# Altium schematic symbol library ICs.SchLib: 247 symbols (part 1 of 4)
Pins are listed as number, name and electrical type; pins without a type are passive.

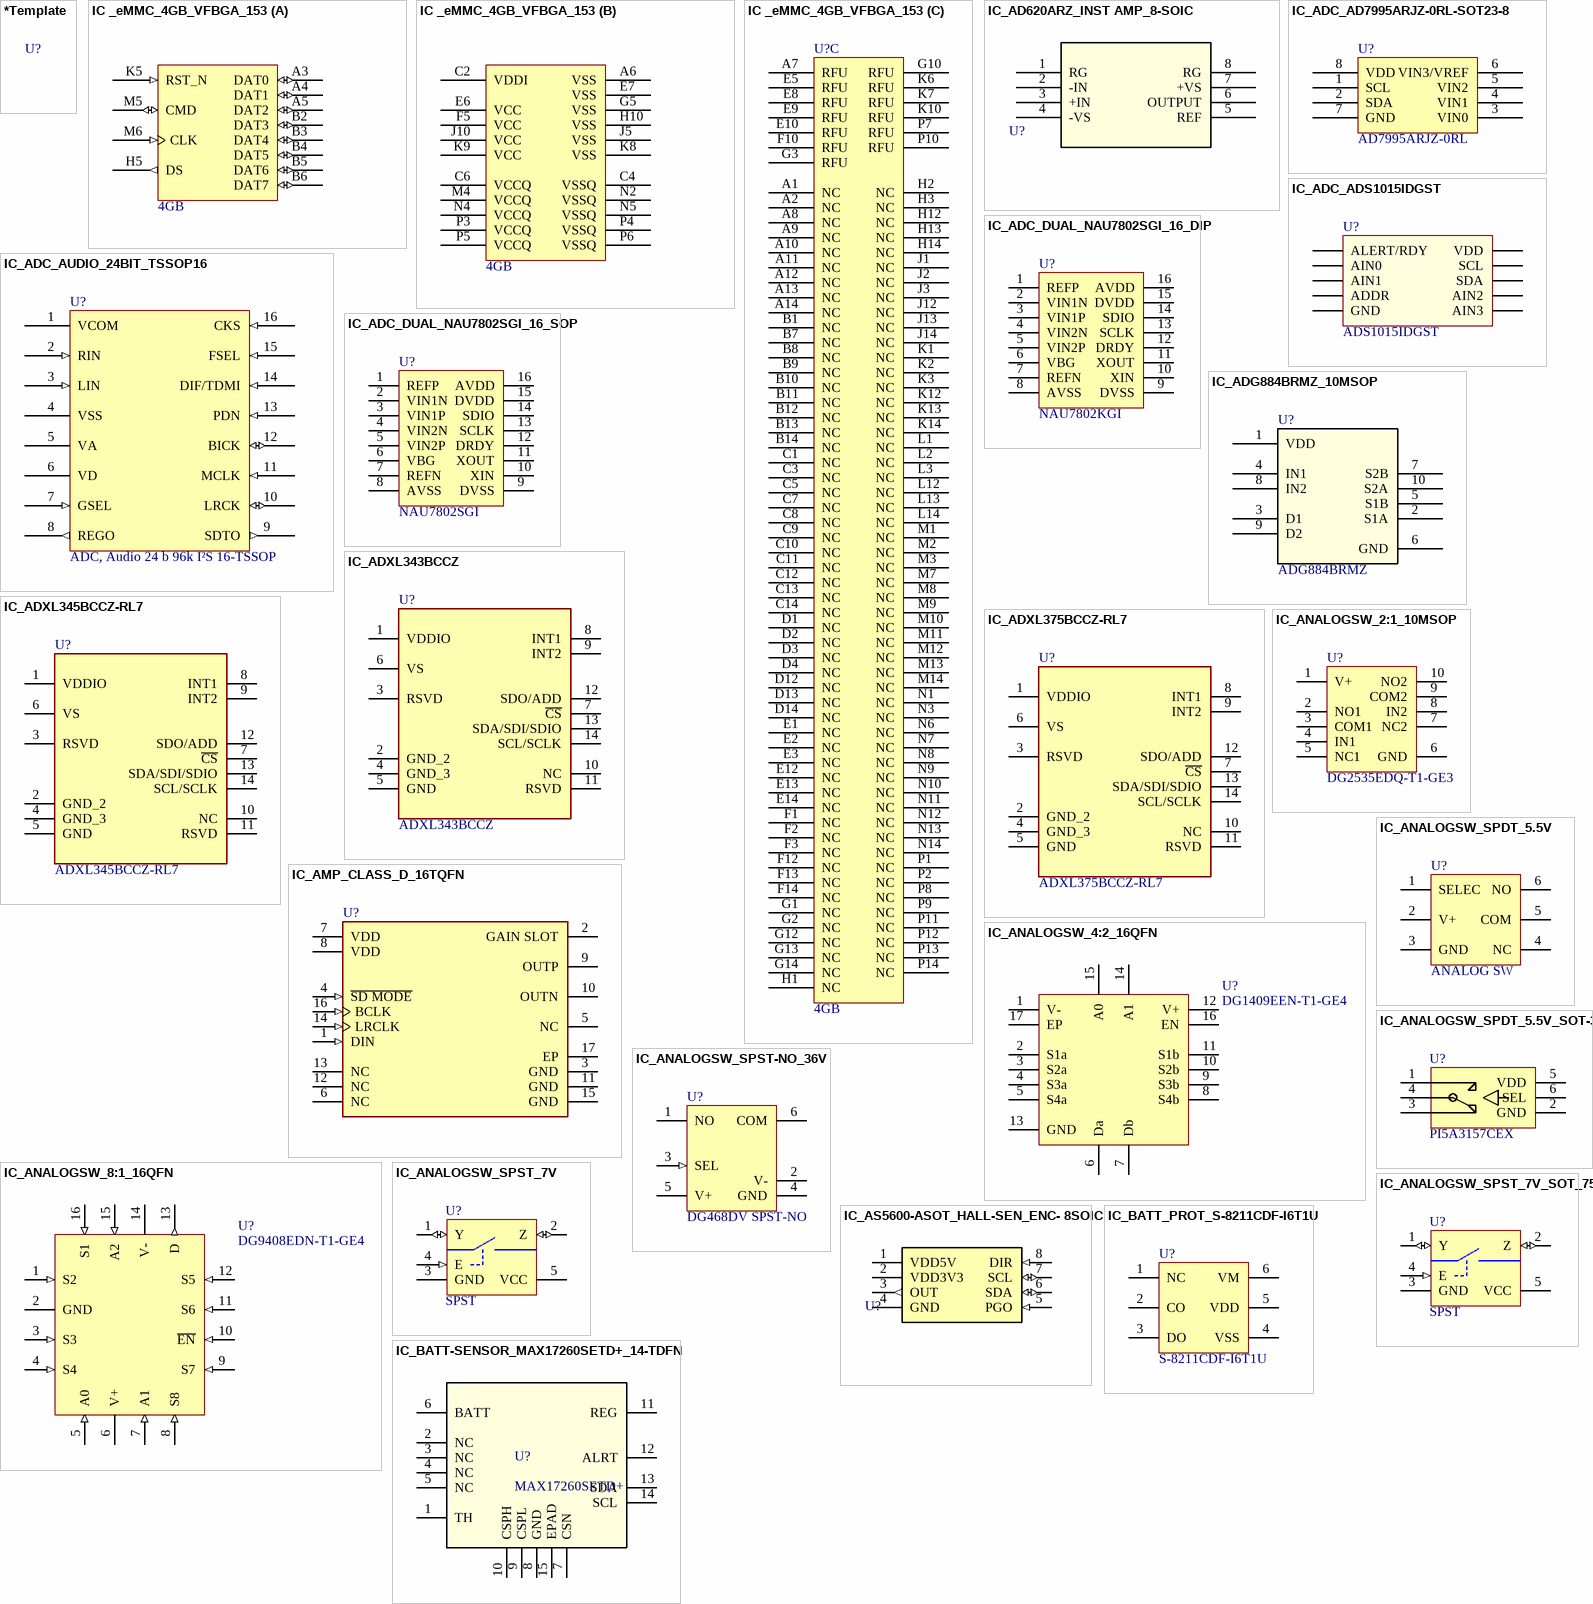
[diagram p0: symbols *Template to IC_BATT_PROT_S-8211CDF-I6T1U]

## *Template
designator U?
Reel Stock: N/A; Last modified by: J.Jaramillo

## IC _eMMC_4GB_VFBGA_153
designator U?, comment 4GB
eMMC 4GB e.MMC5.1 BGA 9.0 x 7.5 x 0.8 mm; Manufacturer: SkyHigh Memory; Manufacturer Part Number: S40FC004C1B2I00000; Supplier 1: Mouser; Supplier Part Number 1: 727-S40FC004C1B2I000; Reel Stock: N/A; Last modified by: J.Jaramillo; Last modified date: 20240310; ComponentLink1Description: Mouser; ComponentLink1URL: https://co.mouser.com/ProductDetail/SkyHigh-Memory/S40FC004C1B2I00000?qs=OlC7AqGiEDmWmI7w2huuXw%3D%3D
footprint VFBGA-153_9x7.5mm (/20220418/V-A.Patino)
part A pins: A3 DAT0 (io) "Data I/O: These are bidirectional data signals. The DAT signals operate in push-pull mode. By default, after power-on or assertion of the RST_n signal, only DAT0 is used for data transfer. The MMC controller can configure a (See Datasheet)", A4 DAT1 (io) "Data I/O: These are bidirectional data signals. The DAT signals operate in push-pull mode. By default, after power-on or assertion of the RST_n signal, only DAT0 is used for data transfer. The MMC controller can configure a (See Datasheet)", A5 DAT2 (io) "Data I/O: These are bidirectional data signals. The DAT signals operate in push-pull mode. By default, after power-on or assertion of the RST_n signal, only DAT0 is used for data transfer. The MMC controller can configure a (See Datasheet)", B2 DAT3 (io) "Data I/O: These are bidirectional data signals. The DAT signals operate in push-pull mode. By default, after power-on or assertion of the RST_n signal, only DAT0 is used for data transfer. The MMC controller can configure a (See Datasheet)", B3 DAT4 (io) "Data I/O: These are bidirectional data signals. The DAT signals operate in push-pull mode. By default, after power-on or assertion of the RST_n signal, only DAT0 is used for data transfer. The MMC controller can configure a (See Datasheet)", B4 DAT5 (io) "Data I/O: These are bidirectional data signals. The DAT signals operate in push-pull mode. By default, after power-on or assertion of the RST_n signal, only DAT0 is used for data transfer. The MMC controller can configure a (See Datasheet)", B5 DAT6 (io) "Data I/O: These are bidirectional data signals. The DAT signals operate in push-pull mode. By default, after power-on or assertion of the RST_n signal, only DAT0 is used for data transfer. The MMC controller can configure a (See Datasheet)", B6 DAT7 (io) "Data I/O: These are bidirectional data signals. The DAT signals operate in push-pull mode. By default, after power-on or assertion of the RST_n signal, only DAT0 is used for data transfer. The MMC controller can configure a (See Datasheet)", H5 DS (out) "Reserved for future use: No internal connection is present. Leave it floating externally.", K5 RST_N (in) "Reset: The RST_n signal is used by the host for resetting the device, moving the device to the preidle state. By default, the RST_n signal is temporarily disabled in the device. The host must set ECSD register byte 162, (See Datasheet)", M5 CMD (io) "Command: This signal is a bidirectional command channel used for command and response transfers. The CMD signal has two bus modes: open-drain mode and push-pull mode (see Operating Modes). Commands are sent from the MMC host (See Datasheet)", M6 CLK (in) "Clock: Each cycle of the clock directs a transfer on the command line and on the data line(s). The frequency can vary between the minimum and the maximum clock frequency."
part B pins: A6 VSS "Reserved for future use: No internal connection is present. Leave it floating externally.", C2 VDDI (power) "Internal voltage node: At least a 0.1uF capacitor is required to connect VDDIM to ground. A 1uF capacitor is recommended. Do not tie to supply voltage or ground.", C4 VSSQ (power) "VSSQ: e·MMC controller core and e·MMC I/F ground connection.", C6 VCCQ (power) "VCCQ: e·MMC controller core and e·MMC I/F I/O power supply.", E6 VCC (power) "VCC: NAND interface (I/F) I/O and NAND Flash power supply.", E7 VSS (power) "VSS: NAND I/F I/O and NAND Flash ground connection.", F5 VCC (power) "VCC: NAND interface (I/F) I/O and NAND Flash power supply.", G5 VSS (power) "VSS: NAND I/F I/O and NAND Flash ground connection.", H10 VSS (power) "VSS: NAND I/F I/O and NAND Flash ground connection.", J5 VSS "Reserved for future use: No internal connection is present. Leave it floating externally.", J10 VCC (power) "VCC: NAND interface (I/F) I/O and NAND Flash power supply.", K8 VSS (power) "VSS: NAND I/F I/O and NAND Flash ground connection.", K9 VCC (power) "VCC: NAND interface (I/F) I/O and NAND Flash power supply.", M4 VCCQ (power) "VCCQ: e·MMC controller core and e·MMC I/F I/O power supply.", N2 VSSQ (power) "VSSQ: e·MMC controller core and e·MMC I/F ground connection.", N4 VCCQ (power) "VCCQ: e·MMC controller core and e·MMC I/F I/O power supply.", N5 VSSQ (power) "VSSQ: e·MMC controller core and e·MMC I/F ground connection.", P3 VCCQ (power) "VCCQ: e·MMC controller core and e·MMC I/F I/O power supply.", P4 VSSQ (power) "VSSQ: e·MMC controller core and e·MMC I/F ground connection.", P5 VCCQ (power) "VCCQ: e·MMC controller core and e·MMC I/F I/O power supply.", P6 VSSQ (power) "VSSQ: e·MMC controller core and e·MMC I/F ground connection."
part C pins: A1 NC "No connect: No internal connection is present.", A2 NC "No connect: No internal connection is present.", A7 RFU "Reserved for future use: No internal connection is present. Leave it floating externally.", A8 NC "No connect: No internal connection is present.", A9 NC "No connect: No internal connection is present.", A10 NC "No connect: No internal connection is present.", A11 NC "No connect: No internal connection is present.", A12 NC "No connect: No internal connection is present.", A13 NC "No connect: No internal connection is present.", A14 NC "No connect: No internal connection is present.", B1 NC "No connect: No internal connection is present.", B7 NC "No connect: No internal connection is present.", B8 NC "No connect: No internal connection is present.", B9 NC "No connect: No internal connection is present.", B10 NC "No connect: No internal connection is present.", B11 NC "No connect: No internal connection is present.", B12 NC "No connect: No internal connection is present.", B13 NC "No connect: No internal connection is present.", B14 NC "No connect: No internal connection is present.", C1 NC "No connect: No internal connection is present.", C3 NC "No connect: No internal connection is present.", C5 NC "Reserved for future use: No internal connection is present. Leave it floating externally.", C7 NC "No connect: No internal connection is present.", C8 NC "No connect: No internal connection is present.", C9 NC "No connect: No internal connection is present.", C10 NC "No connect: No internal connection is present.", C11 NC "No connect: No internal connection is present.", C12 NC "No connect: No internal connection is present.", C13 NC "No connect: No internal connection is present.", C14 NC "No connect: No internal connection is present.", D1 NC "No connect: No internal connection is present.", D2 NC "No connect: No internal connection is present.", D3 NC "No connect: No internal connection is present.", D4 NC "No connect: No internal connection is present.", D12 NC "No connect: No internal connection is present.", D13 NC "No connect: No internal connection is present.", D14 NC "No connect: No internal connection is present.", E1 NC "No connect: No internal connection is present.", E2 NC "No connect: No internal connection is present.", E3 NC "No connect: No internal connection is present.", E5 RFU "Reserved for future use: No internal connection is present. Leave it floating externally.", E8 RFU "Reserved for future use: No internal connection is present. Leave it floating externally.", E9 RFU "Reserved for future use: No internal connection is present. Leave it floating externally.", E10 RFU "Reserved for future use: No internal connection is present. Leave it floating externally.", E12 NC "No connect: No internal connection is present.", E13 NC "No connect: No internal connection is present.", E14 NC "No connect: No internal connection is present.", F1 NC "No connect: No internal connection is present.", F2 NC "No connect: No internal connection is present.", F3 NC "No connect: No internal connection is present.", F10 RFU "Reserved for future use: No internal connection is present. Leave it floating externally.", F12 NC "No connect: No internal connection is present.", F13 NC "No connect: No internal connection is present.", F14 NC "No connect: No internal connection is present.", G1 NC "No connect: No internal connection is present.", G2 NC "No connect: No internal connection is present.", G3 RFU "Reserved for future use: No internal connection is present. Leave it floating externally.", G10 RFU "Reserved for future use: No internal connection is present. Leave it floating externally.", G12 NC "No connect: No internal connection is present.", G13 NC "No connect: No internal connection is present.", G14 NC "No connect: No internal connection is present.", H1 NC "No connect: No internal connection is present.", H2 NC "No connect: No internal connection is present.", H3 NC "No connect: No internal connection is present.", H12 NC "No connect: No internal connection is present.", H13 NC "No connect: No internal connection is present.", H14 NC "No connect: No internal connection is present.", J1 NC "No connect: No internal connection is present.", J2 NC "No connect: No internal connection is present.", J3 NC "No connect: No internal connection is present.", J12 NC "No connect: No internal connection is present.", J13 NC "No connect: No internal connection is present.", J14 NC "No connect: No internal connection is present.", K1 NC "No connect: No internal connection is present.", K2 NC "No connect: No internal connection is present.", K3 NC "No connect: No internal connection is present.", K6 RFU "Reserved for future use: No internal connection is present. Leave it floating externally.", K7 RFU "Reserved for future use: No internal connection is present. Leave it floating externally.", K10 RFU "Reserved for future use: No internal connection is present. Leave it floating externally.", K12 NC "No connect: No internal connection is present.", K13 NC "No connect: No internal connection is present.", K14 NC "No connect: No internal connection is present.", L1 NC "No connect: No internal connection is present.", L2 NC "No connect: No internal connection is present.", L3 NC "No connect: No internal connection is present.", L12 NC "No connect: No internal connection is present.", L13 NC "No connect: No internal connection is present.", L14 NC "No connect: No internal connection is present.", M1 NC "No connect: No internal connection is present.", M2 NC "No connect: No internal connection is present.", M3 NC "No connect: No internal connection is present.", M7 NC "No connect: No internal connection is present.", M8 NC "No connect: No internal connection is present.", M9 NC "No connect: No internal connection is present.", M10 NC "No connect: No internal connection is present.", M11 NC "No connect: No internal connection is present.", M12 NC "No connect: No internal connection is present.", M13 NC "No connect: No internal connection is present.", M14 NC "No connect: No internal connection is present.", N1 NC "No connect: No internal connection is present.", N3 NC "No connect: No internal connection is present.", N6 NC "No connect: No internal connection is present.", N7 NC "No connect: No internal connection is present.", N8 NC "No connect: No internal connection is present.", N9 NC "No connect: No internal connection is present.", N10 NC "No connect: No internal connection is present.", N11 NC "No connect: No internal connection is present.", N12 NC "No connect: No internal connection is present.", N13 NC "No connect: No internal connection is present.", N14 NC "No connect: No internal connection is present.", P1 NC "No connect: No internal connection is present.", P2 NC "No connect: No internal connection is present.", P7 RFU "Reserved for future use: No internal connection is present. Leave it floating externally.", P8 NC "No connect: No internal connection is present.", P9 NC "No connect: No internal connection is present.", P10 RFU "Reserved for future use: No internal connection is present. Leave it floating externally.", P11 NC "No connect: No internal connection is present.", P12 NC "No connect: No internal connection is present.", P13 NC "No connect: No internal connection is present.", P14 NC "No connect: No internal connection is present."

## IC_AD620ARZ_INST AMP_8-SOIC
designator U?
IC INST AMP 1 CIRCUIT 8SOIC; Manufacturer: Analog Devices Inc.; Manufacturer Part Number: AD620ARZ; Supplier 1: Digi-Key; Supplier Part Number 1: 505-AD620ARZ-ND; Reel Stock: N/A; Last modified by: J.Jaramillo; Last modified date: 20240310; ComponentLink1Description: Digi-Key; ComponentLink1URL: https://www.digikey.com/en/products/detail/analog-devices-inc/AD620ARZ/617755
footprint SOIC_8_3.9mm (/ 20190225 / C-A.Serna.A)
pins: 1 RG, 2 -IN, 3 +IN, 4 -VS (power), 5 REF, 6 OUTPUT, 7 +VS (power), 8 RG

## IC_ADC_AD7995ARJZ-0RL-SOT23-8
designator U?, comment AD7995ARJZ-0RL
IC ADC 10BIT SAR SOT23-8; Manufacturer: Analog Devices Inc.; Manufacturer Part Number: AD7995ARJZ-0RL; Supplier 1: Digi-Key; Supplier Part Number 1: AD7995ARJZ-0RLTR-ND; Reel Stock: N/A; Last modified by: J.Jaramillo; Last modified date: 20240310; ComponentLink1Description: Digi-Key; ComponentLink1URL: https://www.digikey.com/en/products/detail/analog-devices-inc/AD7995ARJZ-0RL/2260973?s=N4IgTCBcDaIIIBEDsBOFBWOAlAUgLQFoAGLAGRAF0BfIA
footprint SOT_23_8 (/20220107/J-E.Pachon)
pins: 1 SCL, 2 SDA, 3 VIN0, 4 VIN1, 5 VIN2, 6 VIN3/VREF, 7 GND, 8 VDD

## IC_ADC_ADS1015IDGST
designator U?, comment ADS1015IDGST
IC ADC 12BIT SIGMA-DELTA 10VSSOP; Manufacturer: Texas Instruments; Manufacturer Part Number: ADS1015IDGST; Supplier 1: Digi-Key; Supplier Part Number 1: 296-25227-1-ND; Reel Stock: N/A; Last modified by: J.Jaramillo; Last modified date: 20240310; ComponentLink1Description: Digikey; ComponentLink1URL: https://www.digikey.com/en/products/detail/texas-instruments/ADS1015IDGST/2174980?s=N4IgTCBcDa4JwDYC0YCsYwHYkEYkDkAREAXQF8g
footprint MSOP-10_3.0MM (20210809/V-A.Patino)
pins: 1 ADDR, 2 ALERT/RDY, 3 GND, 4 AIN0, 5 AIN1, 6 AIN2, 7 AIN3, 8 VDD, 9 SDA, 10 SCL

## IC_ADC_AUDIO_24BIT_TSSOP16
designator U?, comment ADC, Audio 24 b 96k I²S 16-TSSOP
IC ADC/AUDIO 24BIT 96K 16TSSOP; Manufacturer: AKM Semiconductor Inc.; Manufacturer Part Number: AK5720VT; Supplier 1: Digi-key; Supplier Part Number 1: 974-1069-1-ND; Reel Stock: N/A; Last modified by: J.Jaramillo; Last modified date: 20240310; ComponentLink1Description: Link; ComponentLink1URL: https://www.digikey.com/products/en?keywords=974-1069-1-ND
footprint TSSOP_16_4.40MM (/ 20190923 / C-D Viveros)
pins: 1 VCOM, 2 RIN (in), 3 LIN (in), 4 VSS (power), 5 VA, 6 VD (power), 7 GSEL (in), 8 REGO (out), 9 SDTO (out), 10 LRCK (io), 11 MCLK (in), 12 BICK (io), 13 PDN (in), 14 DIF/TDMI (in), 15 FSEL (in), 16 CKS (in)

## IC_ADC_DUAL_NAU7802SGI_16_DIP
designator U?, comment NAU7802KGI
IC ADC 24BIT SIGMA-DELTA 16DIP; Manufacturer: Nuvoton Technology Corporation of America; Manufacturer Part Number: NAU7802SGI; Supplier 1: Digi-Key; Supplier Part Number 1: NAU7802KGI-ND; Reel Stock: N/A; Last modified by: J.Jaramillo; Last modified date: 20240310; ComponentLink1Description: Digi-Key; ComponentLink1URL: https://www.digikey.com/en/products/detail/nuvoton-technology-corporation-of-america/NAU7802KGI/2769783
footprint DIP16-2.51mm (/20211126/ C-E. Rincon)
pins: 1 REFP, 2 VIN1N, 3 VIN1P, 4 VIN2N, 5 VIN2P, 6 VBG, 7 REFN, 8 AVSS, 9 DVSS, 10 XIN, 11 XOUT, 12 DRDY, 13 SCLK, 14 SDIO, 15 DVDD, 16 AVDD

## IC_ADC_DUAL_NAU7802SGI_16_SOP
designator U?, comment NAU7802SGI
IC TRNSLTR BIDIRECTIONAL 20TSSOP; Manufacturer: Nuvoton Technology Corporation of America; Manufacturer Part Number: NAU7802SGI; Supplier 1: Digi-Key; Supplier Part Number 1: NAU7802SGI-ND; Reel Stock: N/A; Last modified by: J.Jaramillo; Last modified date: 20240310; ComponentLink1Description: Digi-Key; ComponentLink1URL: https://www.digikey.com/en/products/detail/nuvoton-technology-corporation-of-america/NAU7802SGI/2769782
footprint SOIC_16_3.9MM (/20201210/M-C.Calderon)
pins: 1 REFP, 2 VIN1N, 3 VIN1P, 4 VIN2N, 5 VIN2P, 6 VBG, 7 REFN, 8 AVSS, 9 DVSS, 10 XIN, 11 XOUT, 12 DRDY, 13 SCLK, 14 SDIO, 15 DVDD, 16 AVDD

## IC_ADG884BRMZ_10MSOP
designator U?, comment ADG884BRMZ
IC SWITCH DUAL SPDT 10MSOP; Manufacturer: Analog Devices Inc.; Manufacturer Part Number: ADG884BRMZ; Supplier 1: Digi-Key; Supplier Part Number 1: 505-ADG884BRMZ-ND; Reel Stock: N/A; Last modified by: J.Jaramillo; Last modified date: 20240310; ComponentLink1Description: Digi-Key; ComponentLink1URL: https://www.digikey.com/en/products/detail/analog-devices-inc/ADG884BRMZ/997614
footprint MSOP-10_3.0MM (20221118/J-A.Sepulveda)
pins: 1 VDD (power), 2 S1A, 3 D1, 4 IN1, 5 S1B, 6 GND, 7 S2B, 8 IN2, 9 D2, 10 S2A

## IC_ADXL343BCCZ
designator U?, comment ADXL343BCCZ
ACCEL 2-16G I2C/SPI 14LGA; Manufacturer: Analog Devices Inc.; Manufacturer Part Number: ADXL343BCCZ; Supplier 1: Digi-key; Supplier Part Number 1: 505-ADXL343BCCZ-ND; Reel Stock: N/A; Last modified by: J.Jaramillo; Last modified date: 20240310; ComponentLink1Description: Digikey; ComponentLink1URL: https://www.digikey.com/en/products/detail/analog-devices-inc/ADXL343BCCZ/3542918
footprint 14-VFLGA_3X5MM (/20210809/J-E.Pachon)
pins: 1 VDDIO, 2 GND_2, 3 RSVD, 4 GND_3, 5 GND, 6 VS, 7 ~{CS}, 8 INT1, 9 INT2, 10 NC, 11 RSVD, 12 SDO/ADD, 13 SDA/SDI/SDIO, 14 SCL/SCLK

## IC_ADXL345BCCZ-RL7
designator U?, comment ADXL345BCCZ-RL7
ACCEL 2-16G I2C/SPI 14LGA; Manufacturer: Analog Devices Inc.; Manufacturer Part Number: ADXL345BCCZ-RL7; Supplier 1: Digikey; Supplier Part Number 1: ADXL345BCCZ-RL7CT-ND; Reel Stock: N/A; Last modified by: J.Jaramillo; Last modified date: 20240310; ComponentLink1Description: Digikey; ComponentLink1URL: https://www.digikey.com/en/products/detail/analog-devices-inc/ADXL345BCCZ-RL7/2038981
footprint 14-VFLGA_3X5MM (/20210809/J-E.Pachon)
pins: 1 VDDIO, 2 GND_2, 3 RSVD, 4 GND_3, 5 GND, 6 VS, 7 ~{CS}, 8 INT1, 9 INT2, 10 NC, 11 RSVD, 12 SDO/ADD, 13 SDA/SDI/SDIO, 14 SCL/SCLK

## IC_ADXL375BCCZ-RL7
designator U?, comment ADXL375BCCZ-RL7
ACCELEROMETER 200G I2C/SPI 14LGA; Manufacturer: Analog Devices Inc.; Manufacturer Part Number: ADXL375BCCZ-RL7; Supplier 1: Digi-Key; Supplier Part Number 1: ADXL375BCCZ-RL7CT-ND; Reel Stock: N/A; Last modified by: J.Jaramillo; Last modified date: 20240310; ComponentLink1Description: Digi-Key; ComponentLink1URL: https://www.digikey.com/en/products/detail/analog-devices-inc/ADXL375BCCZ-RL7/4376370?s=N4IgTCBcDaIIIBEAaAZAzAdgKwCEDCeAWgLQBKKGIAugL5A
footprint 14-VFLGA_3X5MM (/20210809/J-E.Pachon)
pins: 1 VDDIO, 2 GND_2, 3 RSVD, 4 GND_3, 5 GND, 6 VS, 7 ~{CS}, 8 INT1, 9 INT2, 10 NC, 11 RSVD, 12 SDO/ADD, 13 SDA/SDI/SDIO, 14 SCL/SCLK

## IC_AMP_CLASS_D_16TQFN
designator U?
IC AMP CLASS D MONO 3.2W 16TQFN; Manufacturer: Maxim Integrated; Manufacturer Part Number: MAX98357AETE+T; Supplier 1: Digi-key; Supplier Part Number 1: MAX98357AETE+TCT-ND; Reel Stock: N/A; Last modified by: J.Jaramillo; Last modified date: 20240310; ComponentLink1Description: Digi-key; ComponentLink1URL: https://www.digikey.com/en/products/detail/maxim-integrated/MAX98357AETE-T/4936122?s=N4IgTCBcDaILIEEAaBOAHAZgKwHYEFEAVfAakJAF0BfIA
footprint WFQFN_16_EP_3X3MM (TQFN_16_3x3/20210809/V-A.Patino)
pins: 1 DIN (in), 2 GAIN SLOT, 3 GND (power), 4 ~{SD MODE} (in), 5 NC, 6 NC, 7 VDD (power), 8 VDD (power), 9 OUTP, 10 OUTN, 11 GND (power), 12 NC, 13 NC, 14 LRCLK (in), 15 GND (power), 16 BCLK (in), 17 EP

## IC_ANALOGSW_2:1_10MSOP
designator U?, comment DG2535EDQ-T1-GE3
IC ANALOG SWITCH DUAL 10MSOP; Manufacturer: Vishay Siliconix; Manufacturer Part Number: DG2535EDQ-T1-GE3; Supplier 1: Digi-Key; Supplier Part Number 1: DG2535EDQ-T1-GE3CT-ND; Reel Stock: N/A; Last modified by: J.Jaramillo; Last modified date: 20240310; ComponentLink1Description: Digi-Key; ComponentLink1URL: https://www.digikey.com/en/products/detail/vishay-siliconix/DG2535EDQ-T1-GE3/7422981?s=N4IgTCBcDaICIHEwFYDMyCicCKBaAKgIy4IaogC6AvkA
footprint MSOP-10_3.0MM (20210809/V-A.Patino)
pins: 1 V+ (power), 2 NO1, 3 COM1, 4 IN1, 5 NC1, 6 GND (power), 7 NC2, 8 IN2, 9 COM2, 10 NO2

## IC_ANALOGSW_4:2_16QFN
designator U?, comment DG1409EEN-T1-GE4
IC SWITCH DUAL 16QFN; Manufacturer: Vishay Siliconix; Manufacturer Part Number: DG1409EEN-T1-GE4; Supplier 1: Digi-Key; Supplier Part Number 1: DG1409EEN-T1-GE4CT-ND; Reel Stock: N/A; Last modified by: J.Jaramillo; Last modified date: 20240310; ComponentLink1Description: Digi-key; ComponentLink1URL: https://www.digikey.com/product-detail/en/vishay-siliconix/DG1409EEN-T1-GE4/DG1409EEN-T1-GE4CT-ND/9860931
footprint VQFN_16_EP_4X4MM (16-VQFN EP / 20210809 / N-A.Potosi)
pins: 1 V-, 2 S1a, 3 S2a, 4 S3a, 5 S4a, 6 Da, 7 Db, 8 S4b, 9 S3b, 10 S2b, 11 S1b, 12 V+, 13 GND, 14 A1, 15 A0, 16 EN, 17 EP

## IC_ANALOGSW_8:1_16QFN
designator U?, comment DG9408EDN-T1-GE4
IC ANLG SWITCH PREC 8CH 16QFN; Manufacturer: Vishay Siliconix; Manufacturer Part Number: DG9408EDN-T1-GE4; Reel Stock: N/A; Last modified by: J.Jaramillo; Last modified date: 20240310; Supplier 1: Digi-Key; Supplier Part Number 1: DG9408EDN-T1-GE4CT-ND; ComponentLink1Description: Digi-Key; ComponentLink1URL: https://www.digikey.com/product-detail/en/vishay-siliconix/DG9408EDN-T1-GE4/DG9408EDN-T1-GE4CT-ND/6189305
footprint VQFN_16_EP_4X4MM (16-VQFN EP / 20210809 / N-A.Potosi)
pins: 1 S2 (in), 2 GND, 3 S3 (in), 4 S4 (in), 5 A0 (in), 6 V+, 7 A1 (in), 8 S8 (in), 9 S7 (in), 10 ~{EN} (in), 11 S6 (in), 12 S5 (in), 13 D (out), 14 V-, 15 A2 (in), 16 S1 (in)

## IC_ANALOGSW_SPDT_5.5V
designator U?, comment ANALOG SW
IC SWITCH SPDT 6TSOP; Manufacturer: ON Semiconductor; Manufacturer Part Number: NLAST4599DTT1G; Supplier 1: Digi-Key; Supplier Part Number 1: NLAST4599DTT1GOSCT-ND; Reel Stock: N/A; Last modified by: J.Jaramillo; Last modified date: 20240310; ComponentLink1Description: Digi-Key; ComponentLink1URL: https://www.digikey.com/product-detail/en/on-semiconductor/NLAST4599DTT1G/NLAST4599DTT1GOSCT-ND/2121928
footprint TSOP_6_3.0MM (SOT-23-6 Thin, TSOT-23-6 / 20190225 / C-A.Serna.A)
pins: 1 SELEC, 2 V+, 3 GND, 4 NC, 5 COM, 6 NO

## IC_ANALOGSW_SPDT_5.5V_SOT-363
designator U?, comment PI5A3157CEX
IC ANLG SW/MUX/DEMUX SPDT SC70-6; Manufacturer: Diodes Incorporated; Manufacturer Part Number: PI5A3157CEX; Supplier 1: Digi-Key; Supplier Part Number 1: PI5A3157CEXCT-ND; Reel Stock: N/A; Last modified by: J.Jaramillo; Last modified date: 20240310; ComponentLink1Description: lcsc
footprint SOT_ 363 (TSSOP-6, SC-88, SOT-363 / 20190225 / C-A.Serna.A)
pins: 1 NO, 2 GND, 3 NC, 4 A, 5 VDD, 6 SEL

## IC_ANALOGSW_SPST-NO_36V
designator U?, comment DG468DV SPST-NO
IC SWITCH SPST 6TSOP; Manufacturer: Vishay Siliconix; Manufacturer Part Number: DG468DV-T1-E3; Supplier 1: Digi-key; Supplier Part Number 1: DG468DV-T1-E3CT-ND; Reel Stock: N/A; Last modified by: J.Jaramillo; Last modified date: 20240310; ComponentLink1Description: Digi-key; ComponentLink1URL: https://www.digikey.com/product-detail/en/vishay-siliconix/DG468DV-T1-E3/DG468DV-T1-E3CT-ND/1850090
footprint TSOP_6_3.0MM (SOT-23-6 Thin, TSOT-23-6 / 20190225 / C-A.Serna.A)
pins: 1 NO, 2 V-, 3 SEL (in), 4 GND (power), 5 V+ (power), 6 COM

## IC_ANALOGSW_SPST_7V
designator U?, comment SPST
IC SWITCH SPST 5TSSOP; Manufacturer: Nexperia USA Inc.; Manufacturer Part Number: 74AHC1G66GW,125; Reel Stock: N/A; Last modified by: J.Jaramillo; Last modified date: 20240310; Supplier 1: Digi-Key; Supplier Part Number 1: 1727-4114-1-ND; ComponentLink1Description: Digi-Key; ComponentLink1URL: https://www.digikey.com/en/products/detail/nexperia-usa-inc/74LVC1G07GV-125/1965405
footprint SC_70_5 (SC-70-5, TSSOP-5, SOT-353 / 20190225 / C-A.Serna.A)
pins: 1 Y (io), 2 Z (io), 3 GND (power), 4 E (in), 5 VCC (power)

## IC_ANALOGSW_SPST_7V_SOT_753
designator U?, comment SPST
IC SWITCH SPST 5TSOP; Manufacturer: Nexperia USA Inc.; Manufacturer Part Number: 74AHC1G66GV,125; Reel Stock: N/A; Last modified by: J.Jaramillo; Last modified date: 20240310; Supplier 1: Digi-Key; Supplier Part Number 1: 1727-6763-1-ND; ComponentLink1Description: Digi-Key; ComponentLink1URL: https://www.digikey.com/en/products/detail/nexperia-usa-inc/74AHC1G66GV-125/1229493
footprint SOT_753 (SOT-23-5, SC-74A / 20190225 / C-A.Serna.A)
pins: 1 Y (io), 2 Z (io), 3 GND (power), 4 E (in), 5 VCC (power)

## IC_AS5600-ASOT_HALL-SEN_ENC- 8SOIC
designator U?, comment AS5600-ASOT  (value not drawn)
IC SENSOR MAG ROTARY 12BIT 8SOIC; Manufacturer: AMS; Manufacturer Part Number: AS5600-ASOT; Supplier 1: lCSC; Supplier Part Number 1: C499458; Reel Stock: N/A; Last modified by: J.Jaramillo; Last modified date: 040726; ComponentLink1Description: LCSC; ComponentLink1URL: https://www.lcsc.com/product-detail/C499458.html?s_z=s_p_AS5600-ASOT&spm=wm.fly.bg.0.xh&lcsc_vid=QwVYXldTEgBXBlJSQ1FfUwYAQQJeVl1fQFkKAVYEFFMxVlNeRFBWV1VQRVhdXzsOAxUeFF5JWBYZEEoKFBINSQcJGk4dAgUUFAk%3D; ComponentLink2Description: Datasheet; ComponentLink2URL: https://look.ams-osram.com/m/7059eac7531a86fd/original/AS5600-DS000365.pdf
footprint SOIC_8_3.9mm (/ 20190225 / C-A.Serna.A)
pins: 1 VDD5V (power), 2 VDD3V3 (power), 3 OUT (out), 4 GND (power), 5 PGO (in), 6 SDA (io), 7 SCL (io), 8 DIR (in)

## IC_BATT-SENSOR_MAX17260SETD+_14-TDFN
designator U?, comment MAX17260SETD+
IC BATT MON LI-ION 1CELL 14TDFN; Manufacturer: Analog Devices Inc./Maxim Integrated; Manufacturer Part Number: MAX17260SETD+; Supplier 1: Digi-Key; Supplier Part Number 1: 175-MAX17260SETD+-ND; Reel Stock: N/A; Last modified by: J.Jaramillo; Last modified date: 20240310; ComponentLink1Description: Digi-Key; ComponentLink1URL: https://www.digikey.com/en/products/detail/analog-devices-inc-maxim-integrated/max17260setd/9833456
footprint 14-TDFN_3x3mm (/20230801/J-A.Sepulveda)
pins: 1 TH, 2 NC, 3 NC, 4 NC, 5 NC, 6 BATT, 7 CSN, 8 GND (power), 9 CSPL, 10 CSPH, 11 REG, 12 ALRT, 13 SDA, 14 SCL, 15 EPAD

## IC_BATT_PROT_S-8211CDF-I6T1U
designator U?, comment S-8211CDF-I6T1U
IC BATT PROT LI-ION 1CELL SNT-6A; Manufacturer: ABLIC U.S.A. INC.; Manufacturer Part Number: S-8211CDF-I6T1U; Supplier 1: Digi-Key; Supplier Part Number 1: S-8211CDF-I6T1U-ND; Reel Stock: N/A; Last modified by: J.Jaramillo; Last modified date: 20240310; ComponentLink1Description: Digi-Key; ComponentLink1URL: https://www.digikey.com/en/products/detail/ablic-u-s-a-inc/S-8211CDF-I6T1U/6121135?s=N4IgTCBcDaIMoFoAcYCMqDCARAYggkgGwAqqAqggHJYgC6AvkA
footprint SNT-6A_1.8X1.57MM (20220103 / A-F.Romo)
pins: 1 NC, 2 CO, 3 DO, 4 VSS, 5 VDD, 6 VM

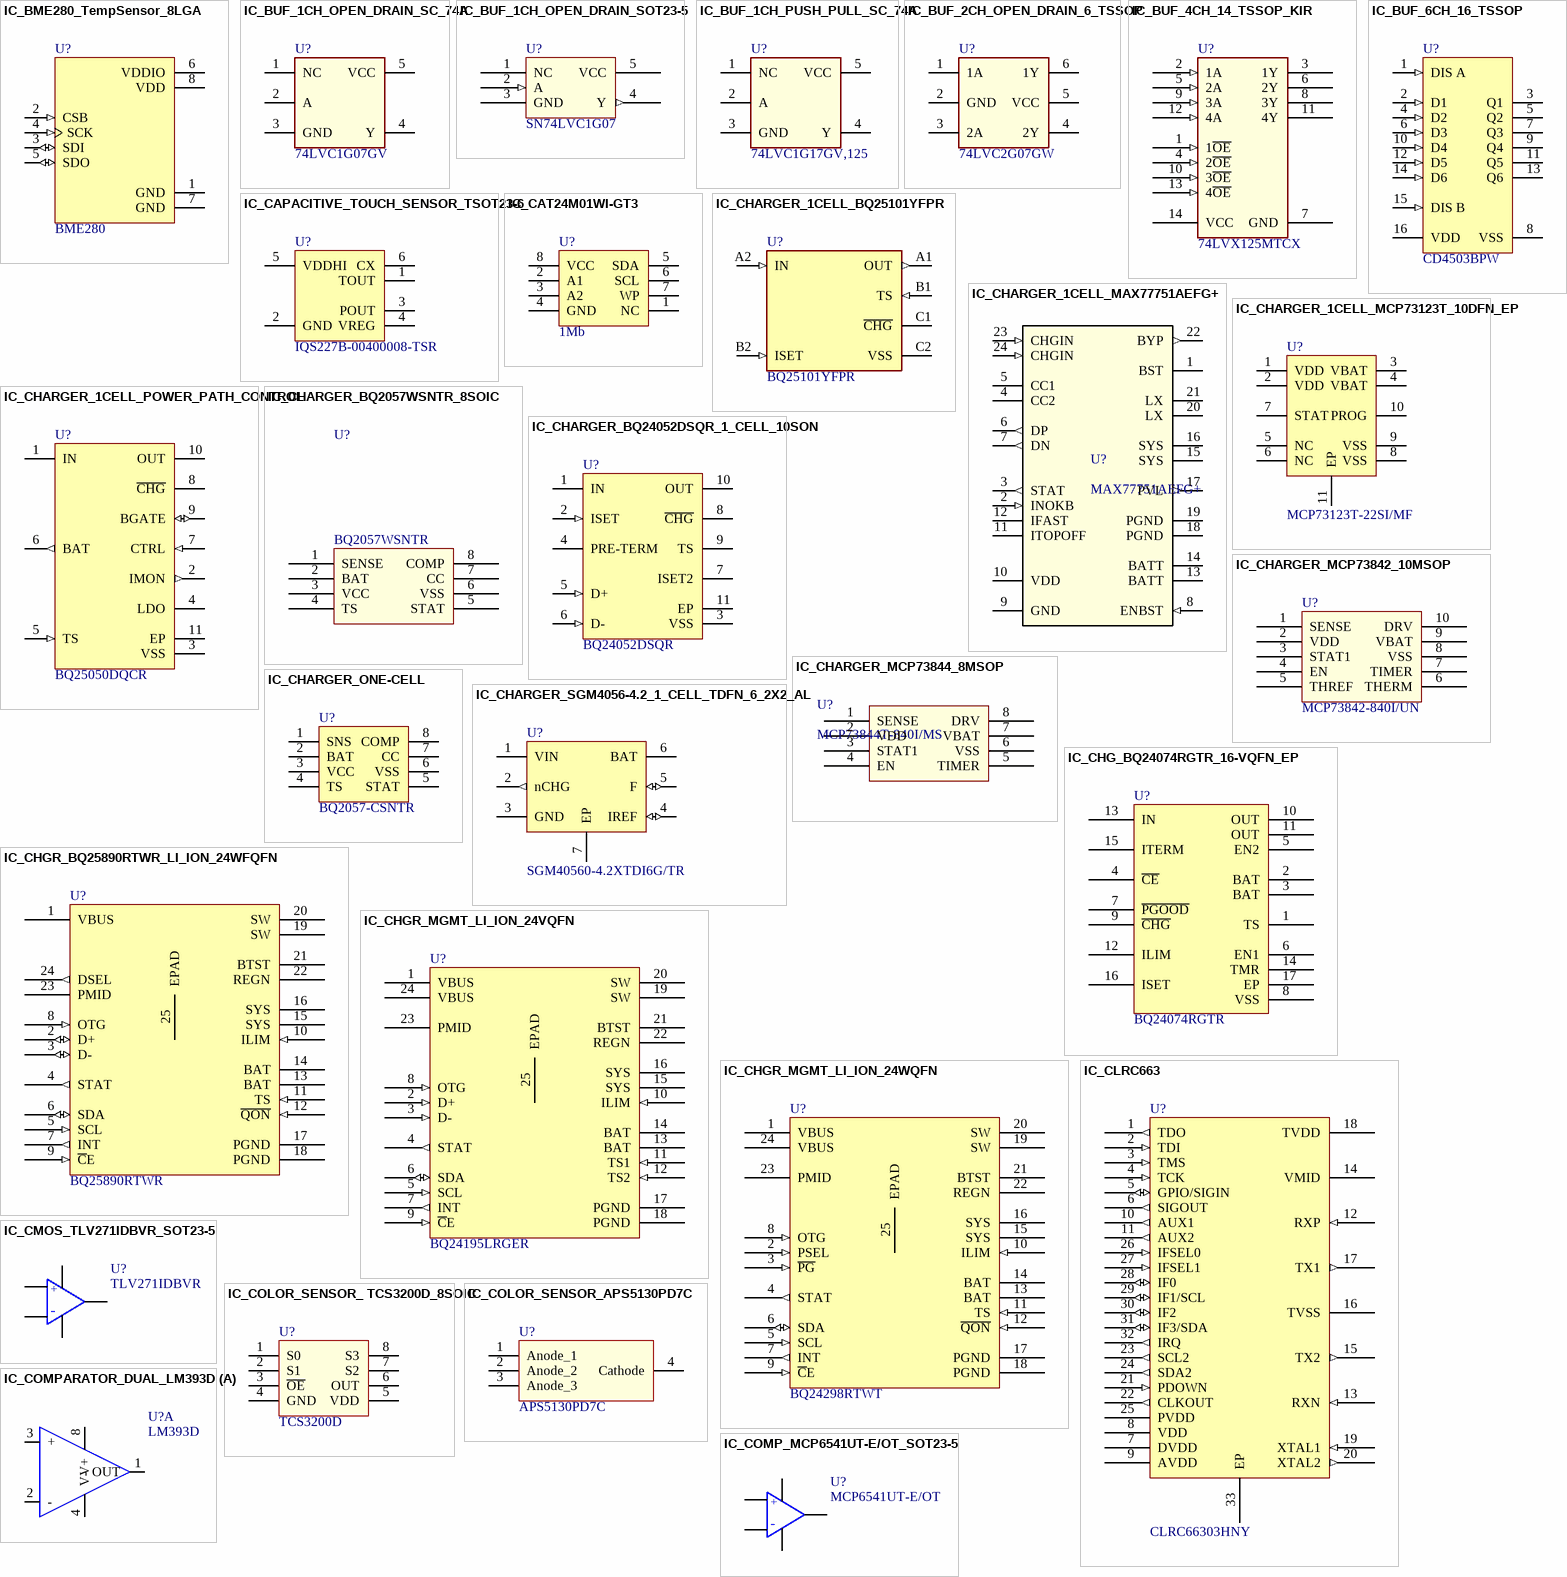
[diagram p1: symbols IC_BME280_TempSensor_8LGA to IC_COMPARATOR_DUAL_LM393D]

## IC_BME280_TempSensor_8LGA
designator U?, comment BME280
SENSOR PRESSURE HUMIDITY TEMP; Manufacturer: Bosch Sensortec; Manufacturer Part Number: BME280; Supplier 1: Digikey; Supplier Part Number 1: 828-1063-1-ND; Reel Stock: N/A; Last modified by: J.Jaramillo; Last modified date: 20240310; ComponentLink1Description: Digi-key; ComponentLink1URL: https://www.digikey.com/en/products/detail/bosch-sensortec/BME280/6136306
footprint LGA_8_2.5x2.5MM (VFLGA_8/20210809/N-A.Potosi)
pins: 1 GND (power), 2 CSB (in), 3 SDI (io), 4 SCK (in), 5 SDO (io), 6 VDDIO (power), 7 GND (power), 8 VDD (power)

## IC_BUF_1CH_OPEN_DRAIN_SC_74A
designator U?, comment 74LVC1G07GV
IC BUFFER NON-INVERT 5.5V 5TSOP; Manufacturer: Nexperia USA Inc.; Manufacturer Part Number: 74LVC1G07GV,125; Supplier 1: Digi-Key; Supplier Part Number 1: 1727-4114-1-ND; Reel Stock: N/A; Last modified by: J.Jaramillo; Last modified date: 20240310; ComponentLink1Description: Digi-Key; ComponentLink1URL: https://www.digikey.com/product-detail/en/nexperia-usa-inc/74LVC1G07GV-125/1727-4114-1-ND/1965405
footprint SOT_753 (SOT-23-5, SC-74A / 20190225 / C-A.Serna.A)
pins: 1 NC, 2 A, 3 GND, 4 Y, 5 VCC

## IC_BUF_1CH_OPEN_DRAIN_SOT23-5
designator U?, comment SN74LVC1G07
IC BUF NON-INVERT 5.5V SOT23-5; Manufacturer: Texas Instruments; Manufacturer Part Number: SN74LVC1G07QDBVRQ1; Reel Stock: N/A; Last modified by: J.Jaramillo; Last modified date: 20240310; ComponentLink1Description: Digi-Key; ComponentLink1URL: https://www.digikey.com/products/en?keywords=296-28414-1-ND; Supplier 1: Digi-Key; Supplier Part Number 1: 296-28414-1-ND
footprint SOT_753 (SOT-23-5, SC-74A / 20190225 / C-A.Serna.A)
pins: 1 NC, 2 A (in), 3 GND, 4 Y (out), 5 VCC (power)

## IC_BUF_1CH_PUSH_PULL_SC_74A
designator U?, comment 74LVC1G17GV,125
IC BUFFER NON-INVERT 5.5V SC74A; Manufacturer: Nexperia USA Inc.; Manufacturer Part Number: 74LVC1G17GV,125; Supplier 1: Digi-Key; Supplier Part Number 1: 1727-6070-1-ND; Reel Stock: N/A; Last modified by: J.Jaramillo; Last modified date: 20240310; ComponentLink1Description: Digi-Key; ComponentLink1URL: https://www.digikey.com/en/products/detail/nexperia-usa-inc/74LVC1G17GV-125/1231446
footprint SOT_753 (SOT-23-5, SC-74A / 20190225 / C-A.Serna.A)
pins: 1 NC, 2 A, 3 GND, 4 Y, 5 VCC

## IC_BUF_2CH_OPEN_DRAIN_6_TSSOP
designator U?, comment 74LVC2G07GW
IC BUF NON-INVERT 5.5V 6TSSOP; Manufacturer: Nexperia USA Inc.; Manufacturer Part Number: 74LVC2G07GW,125; Supplier 1: Digi-Key; Supplier Part Number 1: 1727-4121-1-ND; Reel Stock: N/A; Last modified by: J.Jaramillo; Last modified date: 20240310; ComponentLink1Description: Digi-Key; ComponentLink1URL: https://www.digikey.com/product-detail/en/nexperia-usa-inc/74LVC2G07GW125/1727-4121-1-ND/1965412
footprint SOT_ 363 (TSSOP-6, SC-88, SOT-363 / 20190225 / C-A.Serna.A)
pins: 1 1A, 2 GND, 3 2A, 4 2Y, 5 VCC, 6 1Y

## IC_BUF_4CH_14_TSSOP_KIR
designator U?, comment 74LVX125MTCX
IC BUF NON-INVERT 3.6V 14TSSOP; Manufacturer: ON Semiconductor; Manufacturer Part Number: 74LVX125MTCX; Supplier 1: Digi-Key; Supplier Part Number 1: 74LVX125MTCXCT-ND; Reel Stock: N/A; Last modified by: J.Jaramillo; Last modified date: 20240310; ComponentLink1Description: Digi-Key; ComponentLink1URL: https://www.digikey.com/product-detail/en/on-semiconductor/74LVX125MTCX/74LVX125MTCXCT-ND/1626164
footprint TSSOP_14_4X4MM (/ 20210809 / C-A.Serna.A)
pins: 1 1~{OE} (in), 2 1A (in), 3 1Y (hiz), 4 2~{OE} (in), 5 2A (in), 6 2Y (hiz), 7 GND (power), 8 3Y (hiz), 9 3A (in), 10 3~{OE} (in), 11 4Y (hiz), 12 4A (in), 13 4~{OE} (in), 14 VCC (power)

## IC_BUF_6CH_16_TSSOP
designator U?, comment CD4503BPW
IC BUF NON-INVERT 18 V 16TSSOP; Manufacturer: Texas Instruments; Manufacturer Part Number: CD4503BPW; Supplier 1: Digi-Key; Supplier Part Number 1: 296-32921-5-ND; Reel Stock: N/A; Last modified by: J.Jaramillo; Last modified date: 20240310; ComponentLink1Description: Digi-Key; ComponentLink1URL: https://www.digikey.com/product-detail/en/texas-instruments/CD4503BPW/296-32921-5-ND/1691511
footprint TSSOP_16_4.40MM (/ 20190923 / C-D Viveros)
pins: 1 DIS A (in), 2 D1 (in), 3 Q1 (hiz), 4 D2 (in), 5 Q2 (hiz), 6 D3 (in), 7 Q3 (hiz), 8 VSS (power), 9 Q4 (hiz), 10 D4 (in), 11 Q5 (hiz), 12 D5 (in), 13 Q6 (hiz), 14 D6 (in), 15 DIS B (in), 16 VDD (power)

## IC_CAPACITIVE_TOUCH_SENSOR_TSOT23-6
designator U?, comment IQS227B-00400008-TSR
Capacitive Touch Sensors Single channel capacitive proximity and touch controller; Manufacturer: Azoteq; Manufacturer Part Number: IQS227B-00400008-TSR; Supplier 1: Mouser; Supplier Part Number 1: 957-IQS227B00400008T; Reel Stock: N/A; Last modified by: J.Jaramillo; Last modified date: 20240310; ComponentLink1Description: Mouser; ComponentLink1URL: https://co.mouser.com/ProductDetail/Azoteq/IQS227B-00400008-TSR?qs=A6eO%252BMLsxmS%252BxZpwuDd6ug%3D%3D
footprint TSOT23-6 (/20220413/V-A.Patino)
pins: 1 TOUT, 2 GND, 3 POUT, 4 VREG, 5 VDDHI, 6 CX

## IC_CAT24M01WI-GT3
designator U?, comment 1Mb
IC EEPROM 1MBIT I2C 1MHZ 8SOIC; Manufacturer: ON Semiconductor; Manufacturer Part Number: CAT24M01WI-GT3; Supplier 1: Digi-Key; Supplier Part Number 1: CAT24M01WI-GT3OSCT-ND; Reel Stock: N/A; Last modified by: J.Jaramillo; Last modified date: 20240310; ComponentLink1Description: Digikey; ComponentLink1URL: https://www.digikey.com/en/products/detail/on-semiconductor/CAT24M01WI-GT3/2698334
footprint SOIC_8_3.9mm_L (/ 20190702 / J-P.Vargas.A)
footprint SOIC_8_3.9mm (/ 20190225 / C-A.Serna.A)
pins: 1 NC (power), 2 A1 (power), 3 A2 (power), 4 GND (power), 5 SDA (power), 6 SCL (power), 7 WP (power), 8 VCC (power)

## IC_CHARGER_1CELL_BQ25101YFPR
designator U?, comment BQ25101YFPR
IC BATT CHG LI-ION 1CELL 6DSBGA; Manufacturer: Texas Instruments; Manufacturer Part Number: BQ25101YFPR; Supplier 1: Digi-Key; Supplier Part Number 1: 296-39933-1-ND; Reel Stock: N/A; Last modified by: J.Jaramillo; Last modified date: 20240310; ComponentLink1Description: Digi-Key; ComponentLink1URL: https://www.digikey.com/en/products/detail/texas-instruments/BQ25101YFPR/5022365?s=N4IgTCBcDa4JwDYC0BmOcUqQRiQOQBEQBdAXyA
footprint 6-DSBGA_1.6X0.9MM (20220103 / A-F. Romo)
pins: A1 OUT (out), A2 IN (in), B1 TS (in), B2 ISET (in), C1 ~{CHG}, C2 VSS (power)

## IC_CHARGER_1CELL_MAX77751AEFG+
designator U?, comment MAX77751AEFG+
14V INPUT, 3A USB TYPE C AUTONOM; Manufacturer: Analog Devices Inc./Maxim Integrated; Manufacturer Part Number: MAX77751AEFG+; Supplier 1: Digi-Key; Supplier Part Number 1: 175-MAX77751AEFG+-ND; Reel Stock: N/A; Last modified by: J.Jaramillo; Last modified date: 20240310; ComponentLink1Description: Digi-Key; ComponentLink1URL: https://www.digikey.com/en/products/detail/analog-devices-inc-maxim-integrated/MAX77751AEFG/17885173?s=N4IgTCBcDaILIEEAaB2NBWAjAgogMQHEBqEAXQF8g
footprint 24-FC2QN_3x3mm (/20230801/J-A.Sepulveda)
pins: 1 BST, 2 INOKB (in), 3 STAT (out), 4 CC2, 5 CC1, 6 DP (out), 7 DN (out), 8 ENBST (in), 9 GND (power), 10 VDD (power), 11 ITOPOFF, 12 IFAST, 13 BATT, 14 BATT, 15 SYS, 16 SYS, 17 PVL (out), 18 PGND (power), 19 PGND (power), 20 LX, 21 LX, 22 BYP (out), 23 CHGIN (in), 24 CHGIN (in)

## IC_CHARGER_1CELL_MCP73123T_10DFN_EP
designator U?, comment MCP73123T-22SI/MF
IC LI-ION LDO CHRG MGMT 8-SOIC; Manufacturer: Microchip Technology; Last modified by: J.Jaramillo; Last modified date: 20240310; ComponentLink1Description: Digikey; ComponentLink1URL: https://www.digikey.com/en/products/detail/microchip-technology/MCP73123T-22SI-MF/2126111?s=N4IgTCBcDaILIGEAKB2AzARjGgKgWjDAGUBJAejgDEQBdAXyA; Reel Stock: N/A; Supplier 1: Digi-Key; Manufacturer Part Number: MCP73123T-22SI/MF; Supplier Part Number 1: MCP73123T-22SI/MFCT-ND
footprint DFN10_3x3_EP (10-VFDFN_EP/20220413/V-A.Patino)
pins: 1 VDD, 2 VDD, 3 VBAT, 4 VBAT, 5 NC, 6 NC, 7 STAT, 8 VSS, 9 VSS, 10 PROG, 11 EP

## IC_CHARGER_1CELL_POWER_PATH_CONTROL
designator U?, comment BQ25050DQCR
IC BATT CHRG MGMT LI-ION 10WSON; Manufacturer: Texas Instruments; Last modified by: J.Jaramillo; Last modified date: 20240310; ComponentLink1Description: Digikey; ComponentLink1URL: https://www.digikey.com/products/en?keywords=296-29243-1-ND; Reel Stock: N/A; Supplier 1: Digi-Key; Manufacturer Part Number: BQ25050DQCR; Supplier Part Number 1: 296-29243-1-ND
footprint WFDFN_10_EP_3X2MM (10-WSON / 20210809 /C-D Viveros)
pins: 1 IN (power) "Input power supply. IN is connected to the external DC supply (AC adapter or USB port). Bypass IN to VSS with at least a 0.1uF ceramic capacitor.", 2 IMON (out) "Current monitoring output. Connect a 1kO resistor from IMON to VSS to monitor the input current. The voltage at IMON ranges from 0V to 1V which corresponds to an input current from 0A to 1A.", 3 VSS (power) "Ground terminal. Connect to the thermal pad and the ground plane of the circuit.", 4 LDO (power) "LDO output. LDO is regulated to 4.9V and drives up to 50mA. Bypass LDO to VSS with a 0.1uF ceramic capacitor. LDO is enabled when VUVLO < VIN < VOVP.", 5 TS (in) "Battery pack NTC monitoring input. Connect the battery pack 47-kO NTC from TS to VSS to monitor battery pack temperature. The default pack temperature range is 0degreesC to 45degreesC thresholds.", 6 BAT (out) "Battery connection output. BAT is the sense input for the battery as well as the precharge current output. Connect BAT to the battery and bypass BAT to VSS with a 0.1uF ceramic capacitor.", 7 CTRL (in) "Single-input interface Input. Drive CTRL with pulses to enable/disable the device, enable/disable VIN-DPM, select battery temperature range and select current limits. See the interface section for details on using the CTRL (See Datasheet)", 8 ~{CHG} (hiz) "Charge status indicator open-drain output. C\H\G\ is pulled low while the device is charging the battery. C\H\G\ goes high impedance when the battery is fully charged and does not indicate subsequent recharge cycles. C\H\G\ (See Datasheet)", 9 BGATE (io) "Battery P-Channel FET gate drive output. Connect BGATE to the gate of the external P-Channel FET that connects the battery to OUT. Connect BGATE to VSS if the external FET is not used. No external capacitor is recommended (See Datasheet)", 10 OUT (power) "System output connection. OUT supplies the system with a minimum voltage of 3.4V (min.) to ensure system operation whenever an input adapter is connected regardless of the battery voltage. Bypass OUT to VSS with a 1uF (See Datasheet)", 11 EP (power) "There is an internal electrical connection between the exposed thermal pad and the VSS pin of the device. The thermal pad must be connected to the same potential as the VSS pin on the printed circuit board. Do not use the (See Datasheet)"

## IC_CHARGER_BQ2057WSNTR_8SOIC
designator U?, comment BQ2057WSNTR
IC BATT CHG LI-ION 2CELL 8SOIC; Manufacturer: Texas Instruments; Manufacturer Part Number: BQ2057WSNTR; Supplier 1: Digi-key; Supplier Part Number 1: 296-41202-1-ND; Reel Stock: N/A; Last modified by: J.Jaramillo; Last modified date: 20240310; ComponentLink1Description: Digi-Key; ComponentLink1URL: https://www.digikey.com/en/products/detail/texas-instruments/BQ2057WSNTR/1690104
footprint SOIC_8_3.9mm (/ 20190225 / C-A.Serna.A)
pins: 1 SENSE, 2 BAT, 3 VCC, 4 TS, 5 STAT, 6 VSS, 7 CC, 8 COMP

## IC_CHARGER_BQ24052DSQR_1_CELL_10SON
designator U?, comment BQ24052DSQR
IC BATT CHG LI-ION 1CELL 10SON; Manufacturer: Texas Instruments; Manufacturer Part Number: BQ24052DSQR; Supplier 1: Digi-key; Supplier Part Number 1: 2156-BQ24052DSQR-ND; Reel Stock: N/A; Last modified by: J.Jaramillo; Last modified date: 20240310; ComponentLink1Description: Digi-key; ComponentLink1URL: https://www.digikey.com/en/products/detail/texas-instruments/BQ24052DSQR/13495306
footprint SON_10_2x2MM_EP (/20210319/V-A.Patino)
pins: 1 IN (power) "Input power, connected to external DC supply (AC adapter or USB port). Expected range of bypass capacitors 1 uF to 10 uF, connect from IN to VSS.", 2 ISET (in) "Programs the Fast-charge current setting. External resistor from ISET to VSS defines fast charge current value. Range is 10.8k  (50mA) to 675 ohm (800mA).", 3 VSS (power) "Ground terminal", 4 PRE-TERM "Programs the Current Termination Threshold (5 to 50% of Iout which is set by ISET) and Sets the Pre-Charge Current to twice the Termination Current Level.Expected range of programming resistor is 1k to 10k ohm (2k: IOUT/10 (See Datasheet)", 5 D+ (in) "USB port D+ input connection", 6 D- (in) "USB port D- input connection", 7 ISET2 "Programming the Input/Output Current Limit for the USB or Adaptor source: High = 500mAmax, Low = ISET, FLOAT = 100mA max. D+D- Detection initially sets the charge threshold and requires ISET2 to change states to take control.", 8 ~{CHG} (hiz) "Low (FET on) indicates charging and Open Drain (FET off) indicates no Charging or Charge complete.", 9 TS "Temperature sense pin connected to 100k NTC at 25 degC, in the battery pack. Floating TS Pin or pulling High puts part in TTDM and disable TS monitoring, Timers and Termination. Pulling pin Low disables the IC (CE function). (See Datasheet)", 10 OUT (power) "Battery Connection. System Load may be connected. Average load should not be excessive, allowing battery to charge within the 10 hour safety timer window. Expected range of bypass capacitors 1uF to 10uF.", 11 EP (power) "There is an internal electrical connection between the exposed thermal pad and the VSS pin of the device. The thermal pad must be connected to the same potential as the VSS pin on the printed circuit board. Do not use the (See Datasheet)"

## IC_CHARGER_MCP73842_10MSOP
designator U?, comment MCP73842-840I/UN
IC CONTROLLER LI-ION 8.4V 10MSOP; Manufacturer: Microchip Technology; Manufacturer Part Number: MCP73842-840I/UN; Supplier 1: Digi-key; Supplier Part Number 1: MCP73842-840I/UN-ND; Reel Stock: N/A; Last modified by: J.Jaramillo; Last modified date: 20240310; ComponentLink1Description: Digi-Key; ComponentLink1URL: https://www.digikey.com/en/products/detail/microchip-technology/MCP73842-840I-UN/593743?s=N4IgTCBcDaILIGEAKB2AzADgCxgLTYAYBJAegFUA5XCgERAF0BfIA
footprint MSOP-10_3.0MM (20210809/V-A.Patino)
pins: 1 SENSE, 2 VDD, 3 STAT1, 4 EN, 5 THREF, 6 THERM, 7 TIMER, 8 VSS, 9 VBAT, 10 DRV

## IC_CHARGER_MCP73844_8MSOP
designator U?, comment MCP73844T-840I/MS
IC BATT CNTL LI-ION 1-2CEL 8MSOP; Manufacturer: Microchip Technology; Manufacturer Part Number: MCP73844T-840I/MS; Supplier 1: Digi-Key; Supplier Part Number 1: MCP73844T-840I/MSCT-ND; Reel Stock: N/A; Last modified by: J.Jaramillo; Last modified date: 20240310; ComponentLink1Description: New link; ComponentLink1URL: https://www.digikey.com/en/products/detail/microchip-technology/MCP73844T-840I-MS/593753?s=N4IgTCBcDaILIGEAKB2AzADgCxYCoFpsAGASQHo4BlEAXQF8g
footprint MSOP-8_L_3.0MM (8-VSSOP, 8-TSSOP /  20191119/J-P.Vargas.A)
pins: 1 SENSE, 2 VDD, 3 STAT1, 4 EN, 5 TIMER, 6 VSS, 7 VBAT, 8 DRV

## IC_CHARGER_ONE-CELL
designator U?, comment BQ2057-CSNTR
IC LI-ION LDO CHRG MGMT 8-SOIC; Manufacturer: Texas Instruments; Manufacturer Part Number: BQ2057CSNTR; Last modified by: J.Jaramillo; Last modified date: 20240310; ComponentLink1Description: Digikey; ComponentLink1URL: https://www.digikey.tw/products/en?keywords=296-41201-1-ND; Reel Stock: N/A; Supplier 1: Digi-Key; Supplier Part Number 1: 296-41201-1-ND
footprint SOIC_8_3.9mm (/ 20190225 / C-A.Serna.A)
pins: 1 SNS (power), 2 BAT (power), 3 VCC (power), 4 TS (power), 5 STAT (power), 6 VSS (power), 7 CC (power), 8 COMP (power)

## IC_CHARGER_SGM4056-4.2_1_CELL_TDFN_6_2X2_AL
designator U?, comment SGM40560-4.2XTDI6G/TR
IC BATT CHG LI-ION 1CELL TDFN 6 2X2mm AL; Manufacturer: SGMICRO; Manufacturer Part Number: SGM40560-4.2XTDI6G/TR; Supplier 1: Poshton; Supplier Part Number 1: SGM40560-4.2XTDI6G/TR; Reel Stock: N/A; Last modified by: J.Jaramillo; Last modified date: 20240310; ComponentLink1Description: Datasheet; ComponentLink1URL: http://www.sg-micro.com/uploads/soft/20200211/1581414304.pdf
footprint TDFN6_EP_2X2MM (/20210809/N-A.Potosi)
pins: 1 VIN (power), 2 nCHG (out) "It is the STAT pin", 3 GND (power) "Ground terminal", 4 IREF (io) "Config of max current with external resistor", 5 F (io) "Config of charging voltage", 6 BAT (power), 7 EP (power)

## IC_CHG_BQ24074RGTR_16-VQFN_EP
designator U?, comment BQ24074RGTR
IC BATT CHG LI-ION 1CELL 16QFN; Manufacturer: Texas Instruments; Manufacturer Part Number: BQ24074RGTR; Supplier 1: Digi-Key; Supplier Part Number 1: 296-38873-1-ND; Reel Stock: N/A; Last modified by: J.Jaramillo; Last modified date: 20240310; ComponentLink1Description: Digi-Key; ComponentLink1URL: https://www.digikey.com/en/products/detail/texas-instruments/BQ24074RGTR/2047269
footprint VQFN_16_EP_3X3MM (/20220107/J-E.Pachon)
pins: 1 TS (power), 2 BAT (power), 3 BAT (power), 4 ~{CE}, 5 EN2 (power), 6 EN1, 7 ~{PGOOD}, 8 VSS, 9 ~{CHG}, 10 OUT, 11 OUT, 12 ILIM, 13 IN (power), 14 TMR, 15 ITERM (power), 16 ISET, 17 EP

## IC_CHGR_BQ25890RTWR_LI_ION_24WFQFN
designator U?, comment BQ25890RTWR
IC BATT CHG LI-ION 1CELL 24WQFN; Manufacturer: Texas Instruments; Manufacturer Part Number: BQ25890RTWR; Supplier 1: Digi-Key; Supplier Part Number 1: 296-46074-1-ND; Reel Stock: N/A; Last modified by: J.Jaramillo; Last modified date: 20240310; ComponentLink1Description: Digi-Key; ComponentLink1URL: https://www.digikey.com/en/products/detail/texas-instruments/BQ25890RTWR/6571623
footprint VQFN_24_EP_4X4MM (24-WFQFN EP / 20230809 / N-A.Potosi)
pins: 1 VBUS (power), 2 D+ (io), 3 D- (io), 4 STAT (out), 5 SCL (in), 6 SDA (io), 7 INT (out), 8 OTG (in), 9 ~{C}E (in), 10 ILIM (in), 11 TS (in), 12 ~{QON} (in), 13 BAT (power), 14 BAT (power), 15 SYS (power), 16 SYS (power), 17 PGND (power), 18 PGND (power), 19 SW, 20 SW, 21 BTST (power), 22 REGN (power), 23 PMID (power), 24 DSEL (out), 25 EPAD

## IC_CHGR_MGMT_LI_ION_24VQFN
designator U?, comment BQ24195LRGER
IC CHRG MGMT LI-ION/POL 24VQFN; Manufacturer: Texas Instruments; Manufacturer Part Number: BQ24195LRGER; Supplier 1: Digi-Key; Supplier Part Number 1: 296-49149-1-ND; Reel Stock: N/A; Last modified by: J.Jaramillo; Last modified date: 20240310; ComponentLink1Description: Digi-Key; ComponentLink1URL: https://www.digikey.com/en/products/detail/texas-instruments/BQ24195LRGER/3902503
footprint VQFN_24_EP_4X4MM (24-VQFN EP / 20210809 / N-A.Potosi)
pins: 1 VBUS (power), 2 D+ (in), 3 D- (in), 4 STAT (out), 5 SCL (in), 6 SDA (io), 7 INT (out), 8 OTG (in), 9 ~{C}E (in), 10 ILIM (in), 11 TS1 (in), 12 TS2 (in), 13 BAT (power), 14 BAT (power), 15 SYS (power), 16 SYS (power), 17 PGND (power), 18 PGND (power), 19 SW, 20 SW, 21 BTST (power), 22 REGN (power), 23 PMID (power), 24 VBUS (power), 25 EPAD

## IC_CHGR_MGMT_LI_ION_24WQFN
designator U?, comment BQ24298RTWT
IC BATT CHG LI-ION 1CELL 24WQFN; Manufacturer: Texas Instruments; Manufacturer Part Number: BQ24298RTWT; Supplier 1: Digi-Key; Supplier Part Number 1: 296-42099-1-ND; Reel Stock: N/A; Last modified by: J.Jaramillo; Last modified date: 20240310; ComponentLink1Description: Digi-Key; ComponentLink1URL: https://www.digikey.com/en/products/detail/texas-instruments/BQ24298RTWT/5250351?s=N4IgTCBcDaIEIEUwBYwE4AcAlAKgdRxAF0BfIA
footprint VQFN_24_EP_4X4MM (24-VQFN EP / 20210809 / N-A.Potosi)
pins: 1 VBUS (power), 2 PSEL (in), 3 ~{PG} (in), 4 STAT (out), 5 SCL (in), 6 SDA (io), 7 INT (out), 8 OTG (in), 9 ~{C}E (in), 10 ILIM (in), 11 TS (in), 12 ~{QON} (in), 13 BAT (power), 14 BAT (power), 15 SYS (power), 16 SYS (power), 17 PGND (power), 18 PGND (power), 19 SW, 20 SW, 21 BTST (power), 22 REGN (power), 23 PMID (power), 24 VBUS (power), 25 EPAD

## IC_CLRC663
designator U?, comment CLRC66303HNY
IC RFID READER 13.56MHZ 32HVQFN; Manufacturer: NXP USA Inc.; Manufacturer Part Number: CLRC66303HNY; Supplier 1: Digi-Key; Supplier Part Number 1: 568-13408-1-ND; Reel Stock: N/A; Last modified by: J.Jaramillo; Last modified date: 20240310; ComponentLink1Description: Datasheet; ComponentLink1URL: https://www.nxp.com/docs/en/data-sheet/CLRC663.pdf; ComponentLink2Description: Digi-Key; ComponentLink2URL: https://www.digikey.com/product-detail/en/nxp-usa-inc/CLRC66303HNY/568-13408-1-ND/7347555
footprint HVQFN_32_5x5mm (SOT617/20190828/M-X.Arias)
pins: 1 TDO (out) "TDO / OUT0", 2 TDI (in) "TDI / OUT1", 3 TMS (in) "TMS / OUT2", 4 TCK (in) "TCK / OUT3", 5 GPIO/SIGIN (io) "SIGIN /OUT7", 6 SIGOUT (out), 7 DVDD (power), 8 VDD (power), 9 AVDD (power), 10 AUX1 (out), 11 AUX2 (out), 12 RXP (in), 13 RXN (in), 14 VMID (power), 15 TX2 (out), 16 TVSS (power), 17 TX1 (out), 18 TVDD (power), 19 XTAL1 (in), 20 XTAL2 (out) "XTAL1", 21 PDOWN (in), 22 CLKOUT (out) "CLKOUT / OUT6", 23 SCL2 (out) "SCL", 24 SDA2 (out) "SDA", 25 PVDD (power), 26 IFSEL0 (in) "IFSEL0 / OUT4", 27 IFSEL1 (in) "IFSEL1 / OUT5", 28 IF0 (io), 29 IF1/SCL (io) "IF1", 30 IF2 (io), 31 IF3/SDA (io) "IF3", 32 IRQ (out), 33 EP (power) "VSS"

## IC_CMOS_TLV271IDBVR_SOT23-5
designator U?, comment TLV271IDBVR
IC CMOS 1 CIRCUIT SOT23-5; Manufacturer: Texas Instruments; Manufacturer Part Number: TLV271IDBVR; Supplier 1: Digi-Key; Supplier Part Number 1: 296-13371-1-ND; Reel Stock: N/A; Last modified by: J.Jaramillo; Last modified date: 20240310; ComponentLink1Description: Digi-Key; ComponentLink1URL: https://www.digikey.com/en/products/detail/texas-instruments/TLV271IDBVR/484627
footprint SOT_23_5 (/ 20220804/ J-E.Pachon)
pins: 1 OUT (power), 2 VSS (power), 3 IN+ (power), 4 IN- (power), 5 VDD (power)
text: +; -

## IC_COLOR_SENSOR_ TCS3200D_8SOIC
designator U?, comment TCS3200D
IC COLOR SENSOR LIGHT-FREQ 8SOIC; Manufacturer: ams; Manufacturer Part Number: TCS3200D-TR; Supplier 1: Digi-Key; Supplier Part Number 1: TCS3200D-TRCT-ND; Reel Stock: N/A; Last modified by: J.Jaramillo; Last modified date: 20240310; ComponentLink1Description: Digi-Key; ComponentLink1URL: https://www.digikey.com/product-detail/en/ams/TCS3200D-TR/TCS3200D-TRCT-ND/3095267
footprint SOIC_8_3.9mm (/ 20190225 / C-A.Serna.A)
footprint SOIC_8_3.9mm_L (/ 20190702 / J-P.Vargas.A)
pins: 1 S0, 2 S1, 3 ~{OE}, 4 GND, 5 VDD, 6 OUT, 7 S2, 8 S3

## IC_COLOR_SENSOR_APS5130PD7C
designator U?, comment APS5130PD7C
3.2X1.6MM RGB COLOR SENSOR; Manufacturer: Kingbright; Manufacturer Part Number: APS5130PD7C-P22; Supplier 1: Digi-Key; Supplier Part Number 1: 754-2215-1-ND; Reel Stock: N/A; Last modified by: J.Jaramillo; Last modified date: 20240310; ComponentLink1Description: Digi-Key; ComponentLink1URL: https://www.digikey.tw/product-detail/en/kingbright/APS5130PD7C-P22/754-2215-1-ND/8591582
footprint 4_SMD_3.2X1.6MM (/ 20191115/ J-P.Vargas.A)
pins: 1 Anode_1, 2 Anode_2, 3 Anode_3, 4 Cathode